# Altium footprint library 2004850220.PcbLib: 1 footprints
Each footprint in its own frame and in the unit in brackets; x right, y up, seen from the top. Pads: shape width x height; smd on the part's side, far side on the other; paste and mask are expansions set on the pad; w line width, h text height; cw(c..) or ccw(c..) is an arc to the next point about the centre after c.
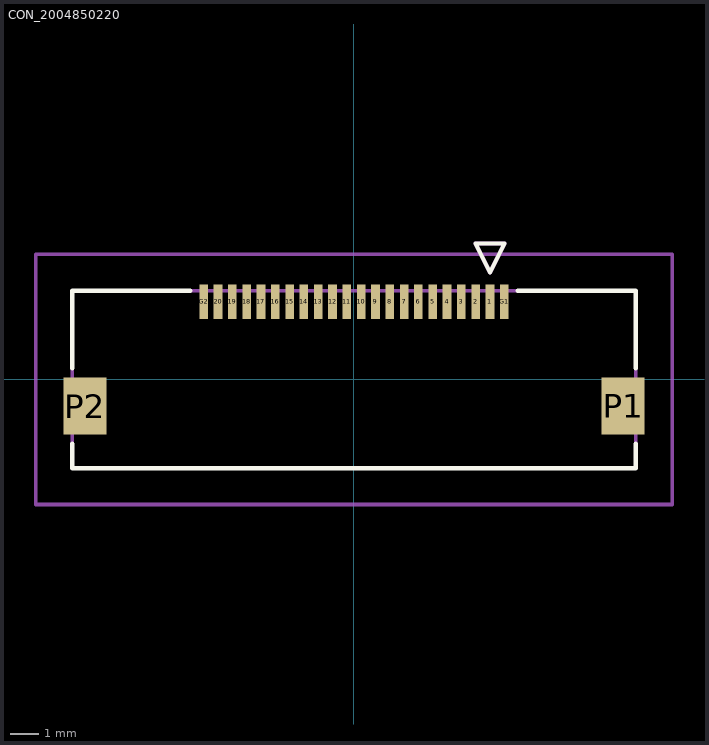
[diagram p0: the footprint, top view; thin cyan lines are the x and y axes]

## CON_2004850220 [mm]
pads (24):
  rect 0.3x1.2 smd paste+0 mask+0.076: 1(4.75,2.72) 2(4.25,2.72) 3(3.75,2.72) 4(3.25,2.72) 5(2.75,2.72) 6(2.25,2.72) 7(1.75,2.72) 8(1.25,2.72) 9(0.75,2.72) 10(0.25,2.72) 11(-0.25,2.72) 12(-0.75,2.72) 13(-1.25,2.72) 14(-1.75,2.72) 15(-2.25,2.72) 16(-2.75,2.72) 17(-3.25,2.72) 18(-3.75,2.72) 19(-4.25,2.72) 20(-4.75,2.72) G1(5.25,2.72) G2(-5.25,2.72)
  rect 1.5x2 smd paste+0 mask+0.076: P1(9.4,-0.93) P2(-9.4,-0.93)
Top Overlay:
  lines w0.152: -9.845,-2.25 -9.845,-3.1 9.845,-3.1 9.845,-2.25 ; -9.845,0.39 -9.845,3.1 -5.72,3.1 ; 5.72,3.1 9.845,3.1 9.845,0.39 ; 4.242,4.752 4.75,3.736 5.258,4.752 4.242,4.752
Mechanical 13:
  lines w0.127: -9.845,-3.1 9.845,-3.1 9.845,3.1 -9.845,3.1 -9.845,-3.1
  lines w0.152: 4.242,4.752 4.75,3.736 5.258,4.752 4.242,4.752
Mechanical 15:
  lines w0.127: -11.115,-4.37 -11.115,4.37 11.115,4.37 11.115,-4.37 -11.115,-4.37
3D body "2004850220.stp": height 4.48, standoff 0.02, extent -9.845,-3.133 9.845,3.067